# EAGLE library part TXB0106 (library TXB0106 - Logic Level Translator)
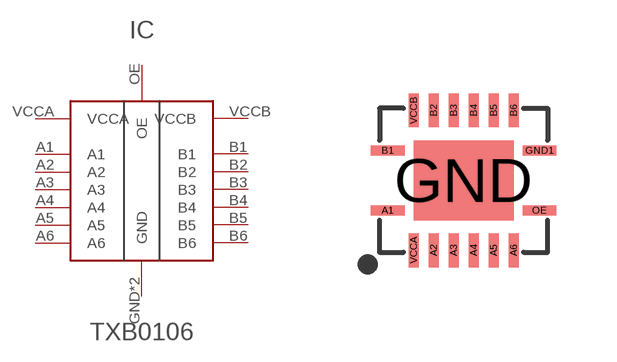
[diagram p0: symbol with the pads of VQFN16; footprint VQFN16]

Designator prefix IC

## TXB0106  [VQFN16]
A1  A1
A2  A2
A3  A3
A4  A4
A5  A5
A6  A6
B1  B1
B2  B2
B3  B3
B4  B4
B5  B5
B6  B6
GND  GND
GND1  GND
OE  OE
VCCA  VCCA
VCCB  VCCB

## Footprint VQFN16 (pad centres in mm)
smd 0.85 x 0.25: A1 -1.9,-0.75; B1 -1.9,0.75; GND1 1.9,0.75; OE 1.9,-0.75
smd 0.25 x 0.85: A2 -0.75,-1.75; A3 -0.25,-1.75; A4 0.25,-1.75; A5 0.75,-1.75; A6 1.25,-1.75; B2 -0.75,1.75; B3 -0.25,1.75; B4 0.25,1.75; B5 0.75,1.75; B6 1.25,1.75; VCCA -1.25,-1.75; VCCB -1.25,1.75
smd 2.5 x 2: GND 0,0